# Altium footprint library 器件封装.PCBLIB: 225 footprints (part 9 of 15)
Each footprint in its own frame and in the unit in brackets; x right, y up, seen from the top. Pads: shape width x height; smd on the part's side, far side on the other; paste and mask are expansions set on the pad; w line width, h text height; cw(c..) or ccw(c..) is an arc to the next point about the centre after c.
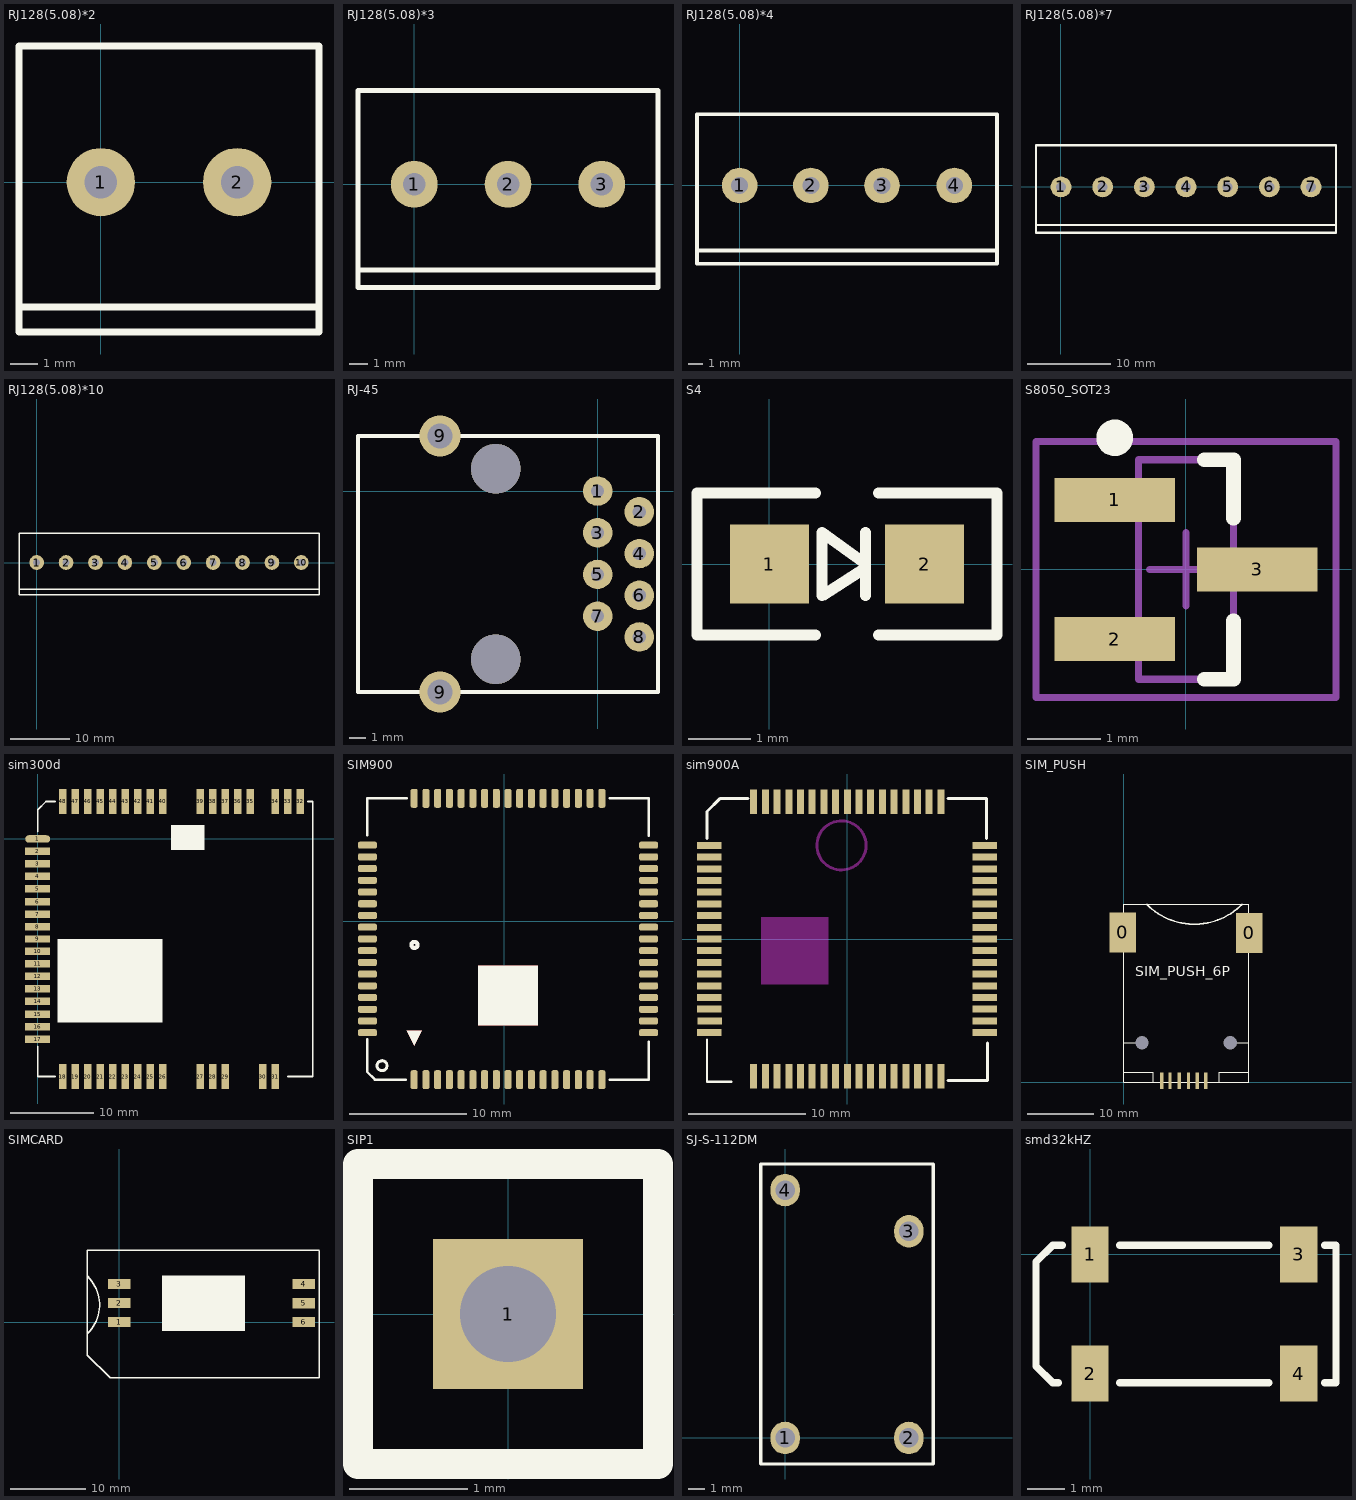
[diagram p8: the footprints below, top view; thin cyan lines are the x and y axes]

## RJ128(5.08)*2 [mm]
pads (2):
  round 2.5 hole 1.2: 1(0,0) 2(5,0)
TopOverlay:
  lines w0.254: -3,-4.572 8,-4.572 ; 8,-5.5 -3,-5.5 -3,5 8,5 8,-5.475

## RJ128(5.08)*3 [mm]
pads (3):
  round 2.5 hole 1.2: 1(0,0) 2(5,0) 3(10,0)
TopOverlay:
  lines w0.254: -3,-4.572 13,-4.572 ; 13,-5.5 -3,-5.5 -3,5 13,5 13,-5.475

## RJ128(5.08)*4 [mm]
pads (4):
  round 2.5 hole 1.2: 1(0,0) 2(5,0) 3(10,0) 4(15.08,0)
TopOverlay:
  lines w0.254: -3,-4.572 18.08,-4.572 ; 18.08,-5.5 -3,-5.5 -3,5 18.08,5 18.08,-5.475

## RJ128(5.08)*7 [mm]
pads (7):
  round 2.5 hole 1.2: 1(0,0) 2(5,0) 3(10,0) 4(15,0) 5(20,0) 6(25,0) 7(30,0)
TopOverlay:
  lines w0.254: -3,-4.572 13,-4.572 ; 7,-5.5 23,-5.5 ; 7,-4.572 23,-4.572 ; 7,5 23,5 ; 13,-5.5 -3,-5.5 -3,5 13,5 ; 17,-5.5 33,-5.5 ; 17,-4.572 33,-4.572 ; 17,5 33,5 33,-5.475

## RJ128(5.08)*10 [mm]
pads (10):
  round 2.5 hole 1.2: 1(0,0) 2(5,0) 3(10,0) 4(15,0) 5(20,0) 6(25,0) 7(30,0) 8(35,0) 9(40,0) 10(45,0)
TopOverlay:
  lines w0.254: -3,-4.572 48,-4.572 ; 7,5 48,5 48,-5.475 ; 13,5 -3,5 -3,-5.5 48,-5.5

## RJ-45 [mm]
pads (10):
  round 1.8 hole 0.8: 1(0,0) 2(2.54,-1.27) 3(0,-2.54) 4(2.54,-3.81) 5(0,-5.08) 6(2.54,-6.35) 7(0,-7.62) 8(2.54,-8.89)
  round 2.5 hole 1.5: 9(-9.6,-12.245) 9(-9.6,3.355)
via -6.2,1.355 diameter 3 hole 3
via -6.2,-10.245 diameter 3 hole 3
TopOverlay:
  lines w0.254: -14.6,-12.245 -14.6,3.355 3.68,3.355 3.68,-12.245 -14.6,-12.245

## S4 [mm]
pads (2):
  rect 1.27x1.27 smd: 1(0,0) 2(2.5,0)
TopOverlay:
  lines w0.18: 0.742,-1.143 -1.163,-1.143 -1.163,1.143 0.742,1.143 ; 1.55,-0.508 1.55,0.508 ; 1.758,-1.143 3.663,-1.143 3.663,1.143 1.758,1.143 ; 0.85,-0.508 1.55,-0.062 1.55,0 0.85,0.508 0.85,-0.508

## S8050_SOT23 [mm] "SOT23, 3-Leads, Body 3.0x2.6mm (max), Pitch 0.95mm, IPC Medium Density"
height 1.1
pads (3):
  rect 1.65x0.6 smd: 1(-0.975,0.95) 2(-0.975,-0.95) 3(0.975,0)
TopOverlay:
  circle w0.25: c-0.975,1.8 r0.125
  lines w0.2: 0.25,-1.5 0.65,-1.5 0.65,-0.7 ; 0.25,1.5 0.65,1.5 0.65,0.7
Mechanical13:
  lines w0.1: -0.65,-1.5 -0.65,1.5 0.65,1.5 0.65,-1.5 -0.65,-1.5
Mechanical15:
  lines w0.1: -0.5,0 0.5,0 ; 0,-0.5 0,0.5 ; -2.05,-1.75 -2.05,1.75 2.05,1.75 2.05,-1.75 -2.05,-1.75
3D body: height 1.1, standoff 0.05, extent -0.65,-1.5 0.65,1.5

## sim300d [mm]
pads (48):
  oval 3x0.9 smd: 1(0,0)
  rect 3x0.9 smd: 2(0,-1.5) 3(0,-3) 4(0,-4.5) 5(0,-6) 6(0,-7.5) 7(0,-9) 8(0,-10.5) 9(0,-12) 10(0,-13.5) 11(0,-15) 12(0,-16.5) 13(0,-18) 14(0,-19.5) 15(0,-21) 16(0,-22.5) 17(0,-24)
  rect 0.9x3 smd: 18(3,-28.5) 19(4.5,-28.5) 20(6,-28.5) 21(7.5,-28.5) 22(9,-28.5) 23(10.5,-28.5) 24(12,-28.5) 25(13.5,-28.5) 26(15,-28.5) 27(19.5,-28.5) 28(21,-28.5) 29(22.5,-28.5) 30(27,-28.5) 31(28.5,-28.5) 32(31.5,4.5) 33(30,4.5) 34(28.5,4.5) 35(25.5,4.5) 36(24,4.5) 37(22.5,4.5) 38(21,4.5) 39(19.5,4.5) 40(15,4.5) 41(13.5,4.5) 42(12,4.5) 43(10.5,4.5) 44(9,4.5) 45(7.5,4.5) 46(6,4.5) 47(4.5,4.5) 48(3,4.5)
TopOverlay:
  rectangle: 2.4,-22 15,-12
  rectangle: 16,-1.3 20,1.7
  lines w0.2: 0,-24.9 0,-28.5 2.1,-28.5 ; 0,0.9 0,3.5 1,4.5 2.1,4.5 ; 30,-28.5 33,-28.5 33,4.5 32.4,4.5 ; 33,0.9 33,3.1

## SIM900 [mm]
pads (68):
  rrect50% 0.6x1.6 smd: 1(-7.67,-13.499) 2(-6.67,-13.499) 3(-5.67,-13.499) 4(-4.67,-13.499) 5(-3.67,-13.499) 6(-2.67,-13.499) 7(-1.67,-13.499) 8(-0.67,-13.499) 9(0.33,-13.499) 10(1.33,-13.499) 11(2.33,-13.499) 12(3.33,-13.499) 13(4.33,-13.499) 14(5.33,-13.499) 15(6.33,-13.499) 16(7.33,-13.499) 17(8.33,-13.499) 35(8.33,10.49) 36(7.33,10.49) 37(6.33,10.49) 38(5.33,10.49) 39(4.33,10.49) 40(3.33,10.49) 41(2.33,10.49) 42(1.33,10.49) 43(0.33,10.49) 44(-0.67,10.49) 45(-1.67,10.49) 46(-2.67,10.49) 47(-3.67,10.49) 48(-4.67,10.49) 49(-5.67,10.49) 50(-6.67,10.49) 51(-7.67,10.49)
  rrect50% 1.6x0.6 smd: 18(12.319,-9.499) 19(12.319,-8.499) 20(12.319,-7.499) 21(12.319,-6.499) 22(12.319,-5.499) 23(12.319,-4.499) 24(12.319,-3.499) 25(12.319,-2.499) 26(12.319,-1.499) 27(12.319,-0.499) 28(12.319,0.501) 29(12.319,1.501) 30(12.319,2.501) 31(12.319,3.501) 32(12.319,4.501) 33(12.319,5.501) 34(12.319,6.501) 52(-11.659,6.501) 53(-11.659,5.501) 54(-11.659,4.501) 55(-11.659,3.501) 56(-11.659,2.501) 57(-11.659,1.501) 58(-11.659,0.501) 59(-11.659,-0.499) 60(-11.659,-1.499) 61(-11.659,-2.499) 62(-11.659,-3.499) 63(-11.659,-4.499) 64(-11.659,-5.499) 65(-11.659,-6.499) 66(-11.659,-7.499) 67(-11.659,-8.499) 68(-11.659,-9.499)
TopLayer:
  circle w0.254: c-7.645,-1.999 r0.254
  region: 2.87,-8.865 2.87,-3.785 -2.21,-3.785 -2.21,-8.865
  region: -7.671,-10.617 -7.036,-9.347 -8.306,-9.347
TopOverlay:
  circle w0.254: c-10.414,-12.313 r0.426
  circle w0.34: c-7.645,-2.007 r0.26
  rectangle: -2.21,-8.89 2.87,-3.785
  region: -7.675,-10.62 -7.04,-9.35 -8.31,-9.35
  lines w0.2: -11.67,-10.058 -11.67,-12.852 -11.024,-13.499 -8.382,-13.499 ; -11.67,7.341 -11.67,10.501 -8.28,10.501 ; 8.992,10.501 12.33,10.501 12.33,7.315 ; 9.017,-13.499 12.33,-13.499 12.33,-10.262

## sim900A [mm]
pads (68):
  rect 2.1x0.6 smd: 1(-11.8,8) 2(-11.8,7) 3(-11.8,6) 4(-11.8,5) 5(-11.8,4) 6(-11.8,3) 7(-11.8,2) 8(-11.8,1) 9(-11.8,0) 10(-11.8,-1) 11(-11.8,-2) 12(-11.8,-3) 13(-11.8,-4) 14(-11.8,-5) 15(-11.8,-6) 16(-11.75,-7) 17(-11.8,-8) 35(11.75,-8) 36(11.75,-7) 37(11.75,-6) 38(11.75,-5) 39(11.75,-4) 40(11.75,-3) 41(11.75,-2) 42(11.75,-1) 43(11.75,0) 44(11.75,1) 45(11.75,2) 46(11.75,3) 47(11.75,4) 48(11.75,5) 49(11.75,6) 50(11.75,7) 51(11.75,8)
  rect 0.6x2.1 smd: 18(-8,-11.75) 19(-7,-11.75) 20(-6,-11.75) 21(-5,-11.75) 22(-4,-11.75) 23(-3,-11.75) 24(-2,-11.75) 25(-1,-11.75) 26(0,-11.75) 27(1,-11.75) 28(2,-11.75) 29(3,-11.75) 30(4,-11.75) 31(5,-11.75) 32(6,-11.75) 33(7,-11.75) 34(8,-11.75) 52(8,11.75) 53(7,11.75) 54(6,11.75) 55(5,11.75) 56(4,11.75) 57(3,11.75) 58(2,11.75) 59(1,11.75) 60(0,11.75) 61(-1,11.75) 62(-2,11.75) 63(-3,11.75) 64(-4,11.75) 65(-5,11.75) 66(-6,11.75) 67(-7,11.75) 68(-8,11.75)
TopOverlay:
  lines w0.2: -12,-8.6 -12,-12.2 -9.9,-12.2
  lines w0.254: -12,8.6 -12,10.9 -10.9,12 -8.5,12 ; 8.6,-12.1 12,-12.1 12,-8.9 ; 8.6,12 11.9,12 11.9,8.6
KeepOutLayer:
  circle w0.254: c-0.5,8 r2.1
  rectangle: -7.399,-3.898 -1.599,1.902

## SIM_PUSH [mm]
pads (10):
  rect 4x6 smd: 0(-0.102,22.733) 0(19.05,22.657)
  round 0 hole 2: 0(2.8,6) 0(16.2,6)
  rect 0.5x2.5 smd: 1(5.791,0.237) 2(8.458,0.237) 3(11.201,0.237) 4(7.061,0.237) 5(9.855,0.237) 6(12.471,0.237)
TopOverlay:
  lines w0.127: 0,1.5 4.5,1.5 4.5,0 ; 0,6 2.3,6 ; 14.5,0 14.5,1.5 19,1.5 ; 16.7,6 19,6 ; 0,0 19,0 19,27 0,27 0,0
  lines w0.254: 3.5,27 ccw(c10.75,34.25) 18,27
  text "SIM_PUSH_6P" at 1.8,16.1 h1.52

## SIMCARD [mm]
pads (6):
  rect 3x1.35 smd: 1(0,0) 2(0,2.54) 3(0,5.08) 4(24.7,5.08) 5(24.7,2.52) 6(24.7,0)
TopOverlay:
  region: 16.849,-1.181 16.849,6.219 5.749,6.219 5.749,-1.181
  lines w0.18: -4.19,-1.524 ccw(c-8,2.286) -4.19,6.096
  lines w0.2: -1.259,-7.42 26.721,-7.42 26.721,9.56 ; -1.259,-7.4 -4.249,-4.41 -4.249,9.58 26.721,9.58

## SIP1 [mil]
pads (1):
  rect 50x50 hole 32: 1(0,0)
TopOverlay:
  lines w10: -50,-50 -50,50 50,50 50,-50 -50,-50

## SJ-S-112DM [mm]
pads (4):
  oval 1.8x2 hole 1.2: 1(0,0) 2(7.6,0) 3(7.6,12.7) 4(0,15.24)
TopOverlay:
  lines w0.2: -1.5,-1.6 9.1,-1.6 9.1,16.84 -1.5,16.84 -1.5,-1.6

## smd32kHZ [mm]
pads (4):
  rect 1x1.5 smd: 1(0,0) 2(0,-3.2) 3(5.6,0) 4(5.6,-3.2)
TopOverlay:
  lines w0.2: -0.85,-3.45 -1.001,-3.45 -1.45,-3 -1.45,-0.2 -1,0.25 -0.75,0.25 ; 0.8,-3.45 4.8,-3.45 ; 0.8,0.25 4.8,0.25 ; 6.3,-3.45 6.6,-3.45 6.6,0.25 6.3,0.25